# Altium footprint library R1206.PcbLib: 1 footprints
Each footprint in its own frame and in the unit in brackets; x right, y up, seen from the top. Pads: shape width x height; smd on the part's side, far side on the other; paste and mask are expansions set on the pad; w line width, h text height; cw(c..) or ccw(c..) is an arc to the next point about the centre after c.
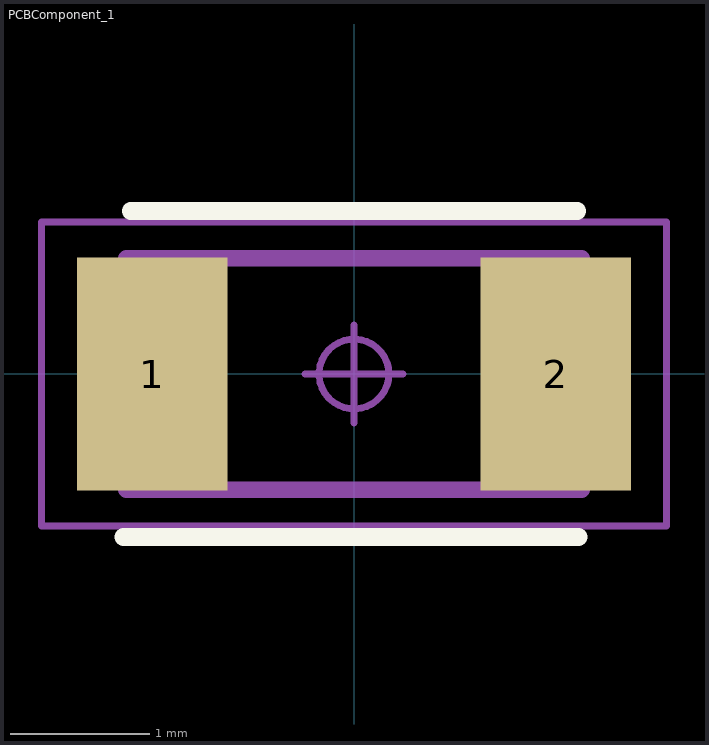
[diagram p0: the footprint, top view; thin cyan lines are the x and y axes]

## PCBComponent_1 [mm]
pads (2):
  rect 1.08x1.67 smd: 1(-1.445,0) 2(1.445,0)
Top Overlay:
  lines w0.127: -1.651,-1.168 1.609,-1.168 ; -1.6,1.168 1.6,1.168
Mechanical 13:
  lines w0.001: -1.625,-0.825 -1.625,0.825 1.625,0.825 1.625,-0.825 -1.625,-0.825
  lines w0.12: -1.63,-0.83 -1.63,0.83 1.63,0.83 1.63,-0.83 -1.63,-0.83
Mechanical 15:
  circle w0.05: c0,0 r0.25
  lines w0.05: -0.35,0 0.35,0 ; 0,-0.35 0,0.35 ; -2.24,-1.09 -2.24,1.09 2.24,1.09 2.24,-1.09 -2.24,-1.09
3D body "R1206.step": height 0.6, standoff 0, extent -1.6,-0.8 1.6,0.8